# Altium schematic symbol library ADUM4160BRIZ-RL.SchLib: 1 symbol
Pins are listed as number, name and electrical type; pins without a type are passive.

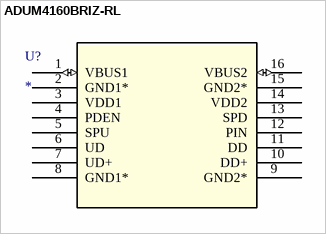
[diagram p0: symbol ADUM4160BRIZ-RL]

## ADUM4160BRIZ-RL
designator U?
No Description Available; Mfr_Name: Analog Devices Inc; RefDes: RefDes; Type: Type
footprint RI_16_2_ADI
pins: 1 VBUS1 (io), 2 GND1* (power), 3 VDD1 (power), 4 PDEN, 5 SPU, 6 UD, 7 UD+, 8 GND1* (power), 9 GND2* (power), 10 DD+, 11 DD, 12 PIN, 13 SPD, 14 VDD2 (power), 15 GND2* (power), 16 VBUS2 (io)